# Altium footprint library Diodes.PcbLib: 14 footprints
Each footprint in its own frame and in the unit in brackets; x right, y up, seen from the top. Pads: shape width x height; smd on the part's side, far side on the other; paste and mask are expansions set on the pad; w line width, h text height; cw(c..) or ccw(c..) is an arc to the next point about the centre after c.
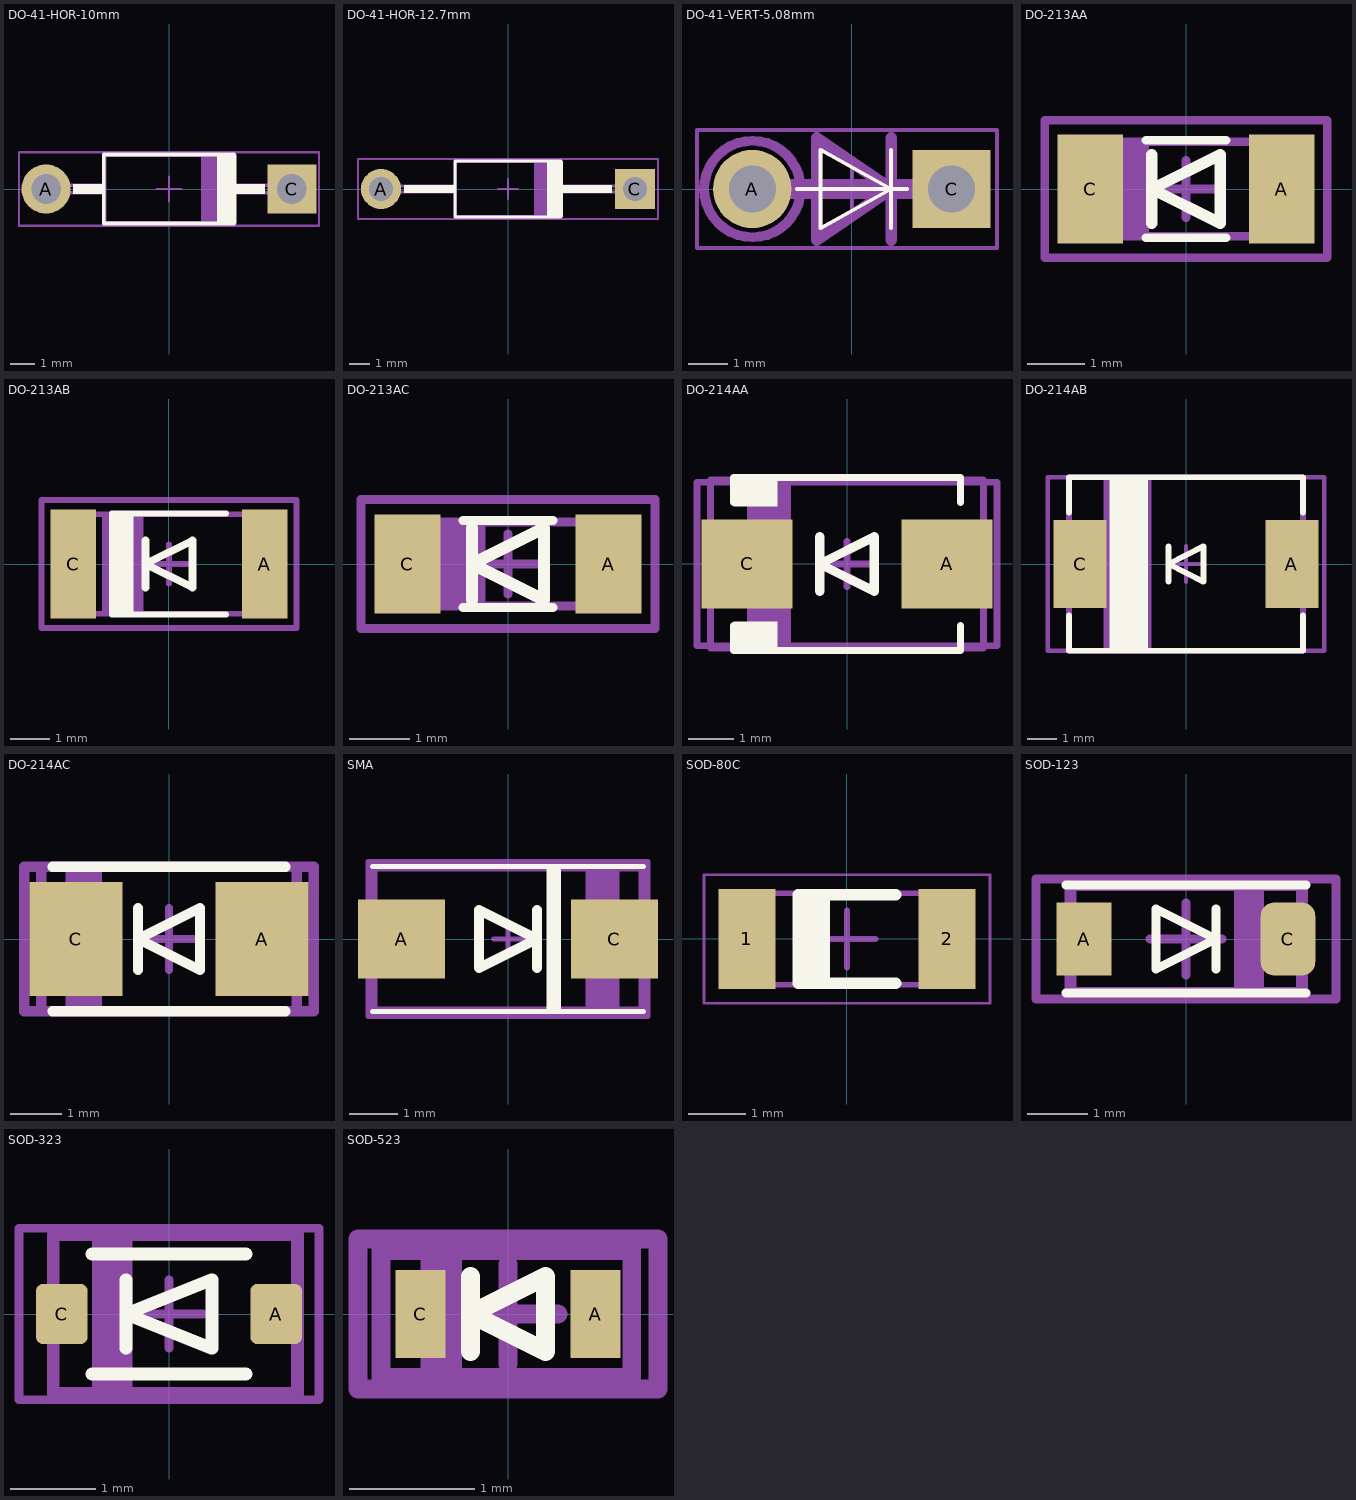
[diagram p0: the footprints below, top view; thin cyan lines are the x and y axes]

## DO-41-HOR-10mm [mm] "Diode, Axial; Body 5.2 x 2.7 mm (LxDia. max), Lead Dia. 0.86 mm (max)"
height 5
pads (2):
  round 2 hole 1.2: A(-5,0)
  rect 2x2 hole 1.2: C(5,0)
Top Overlay:
  rectangle: -3.9,-0.2 -2.65,0.2
  region: 3.9,0.2 2.65,0.2 2.65,-0.2 3.9,-0.2
  rectangle: 1.95,-1.4 2.75,1.4
  lines w0.15: 2.65,-1.4 -2.65,-1.4 -2.65,1.4 2.65,1.4
Top Assembly (Mech3):
  rectangle: 1.3,-1.375 1.95,1.375
  lines w0.15: -2.675,-0.15 -5.23,-0.15 -5.23,0 -5.23,0.15 -2.675,0.15 ; 2.675,-0.15 5.23,-0.15 5.23,0 5.23,0.15 2.675,0.15 ; -2.625,-1.375 -2.625,1.375 2.625,1.375 2.625,-1.375 -2.625,-1.375
Top Courtyard:
  lines w0.1: -0.5,0 0.5,0 ; 0,-0.5 0,0.5 ; -6.1,-1.5 -6.1,1.5 6.1,1.5 6.1,-1.5 -6.1,-1.5
3D body "User Library-DO-41 10mm.STEP": height 4.36, standoff -1, extent -5.41,-1.362 5.45,1.363

## DO-41-HOR-12.7mm [mm] "Diode, Axial; Body 5.2 x 2.7 mm (LxDia. max), Lead Dia. 0.86 mm (max)"
height 5
pads (2):
  round 2 hole 1.2: A(-6.35,0)
  rect 2x2 hole 1.2: C(6.35,0)
Top Overlay:
  region: 5.2,0.2 2.65,0.2 2.65,-0.2 5.2,-0.2
  rectangle: -5.2,-0.2 -2.65,0.2
  rectangle: 1.95,-1.4 2.75,1.4
  lines w0.15: 2.65,-1.4 -2.65,-1.4 -2.65,1.4 2.65,1.4
Top Assembly (Mech3):
  rectangle: 1.3,-1.375 1.95,1.375
  lines w0.15: -2.675,-0.15 -6.43,-0.15 -6.43,0 -6.43,0.15 -2.675,0.15 ; 2.675,-0.15 6.43,-0.15 6.43,0 6.43,0.15 2.675,0.15 ; -2.625,-1.375 2.625,-1.375 2.625,1.375 -2.625,1.375 -2.625,-1.375
Top Courtyard:
  lines w0.1: -0.5,0 0.5,0 ; 0,-0.5 0,0.5 ; -7.5,-1.5 7.5,-1.5 7.5,1.5 -7.5,1.5 -7.5,-1.5
3D body "User Library-DO-41 12_7mm.STEP": height 4.35, standoff -1.5, extent -6.78,-1.35 6.78,1.35

## DO-41-VERT-5.08mm [mm] "Diode, Axial; Body 5.2 x 2.7 mm (LxDia. max), Lead Dia. 0.86 mm (max)"
height 10
pads (2):
  round 2 hole 1.2: A(-2.54,0)
  rect 2x2 hole 1.2: C(2.54,0)
Top Overlay:
  lines w0.1: -1.4,0 1.4,0 ; 1,-1 1,1 ; -0.8,-1 -0.8,1 1,0 -0.8,-1
Top Assembly (Mech3):
  circle w0.254: c-2.54,0 r1.231
  lines w0.3: 1,-1.3 1,1.3 ; -0.9,-1.3 -0.9,1.3 1,0 -0.9,-1.3
  lines w0.5: -2.5,0 2.54,0
Top Courtyard:
  lines w0.1: -0.5,0 0.5,0 ; 0,-0.5 0,0.5 ; -3.952,-1.5 3.7,-1.5 3.7,1.5 -3.952,1.5 -3.952,-1.5
3D body "User Library-DO-41 Vert 5_08mm.STEP": height 10.43, standoff -1.2, extent -3.85,-1.35 3.01,1.35

## DO-213AA [mm] "MELF Diode, 2-Leads, Body 3,50x1,65mm, IPC Medium Density"
height 1.65
pads (2):
  rect 1.15x1.9 smd: A(1.675,0) C(-1.675,0)
Top Overlay:
  lines w0.15: -0.7,-0.85 0.7,-0.85 ; -0.7,0.85 0.7,0.85
  lines w0.2: -0.6,-0.6 -0.6,0.6 ; -0.6,0 0.6,-0.6 0.6,0.6 -0.6,0
  text "." at -2.35,1.3 h0.1
Top Assembly (Mech3):
  rectangle: -1.3,-0.825 -0.65,0.825
  lines w0.15: -1.75,-0.825 1.75,-0.825 1.75,0.825 -1.75,0.825 -1.75,-0.825
Top Courtyard:
  lines w0.15: -0.5,0 0.5,0 ; 0,-0.5 0,0.5 ; -2.475,-1.2 -2.475,1.2 2.475,1.2 2.475,-1.2 -2.475,-1.2
3D body "DO-213AA.step": height 1.65, standoff 0.01, extent -1.75,-0.823 1.75,0.823

## DO-213AB [mm] "MELF Diode, 2-Leads, Body 5,00x2,52mm, IPC Medium Density"
height 2.52
pads (2):
  rect 1.15x2.75 smd: A(2.425,0) C(-2.425,0)
Top Overlay:
  rectangle: -1.45,-1.275 -0.9,1.275
  lines w0.15: 1.45,-1.275 -1.45,-1.275 -1.45,1.275 1.45,1.275
  lines w0.2: -0.6,-0.6 -0.6,0.6 ; -0.6,0 0.6,0.6 0.6,-0.6 -0.6,0
  text "." at -3.35,1.55 h0.1
Top Assembly (Mech3):
  rectangle: -1.7,-1.26 -0.65,1.26
  lines w0.15: -2.5,-1.26 2.5,-1.26 2.5,1.26 -2.5,1.26 -2.5,-1.26
Top Courtyard:
  lines w0.15: -0.5,0 0.5,0 ; 0,-0.5 0,0.5 ; -3.225,-1.625 -3.225,1.625 3.225,1.625 3.225,-1.625 -3.225,-1.625
3D body "DO-213AB.step": height 1.4, standoff 0.01, extent -1.725,-0.699 1.725,0.699

## DO-213AC [mm] "MELF Diode, 2-Leads, Body 3,45x1,40mm, IPC Medium Density"
height 1.4
pads (2):
  rect 1.1x1.65 smd: A(1.675,0) C(-1.675,0)
Top Overlay:
  lines w0.15: -0.75,-0.725 0.75,-0.725 ; -0.75,0.725 0.75,0.725
  lines w0.2: -0.6,-0.6 -0.6,0.6 ; -0.6,0 0.6,-0.6 0.6,0.6 -0.6,0
  text "." at -2.6,1.3 h0.1
Top Assembly (Mech3):
  rectangle: -1.2,-0.7 -0.375,0.7
  lines w0.15: -1.725,-0.7 -1.725,0.7 1.725,0.7 1.725,-0.7 -1.725,-0.7
Top Courtyard:
  lines w0.15: -0.5,0 0.5,0 ; 0,-0.5 0,0.5 ; -2.45,-1.075 2.45,-1.075 2.45,1.075 -2.45,1.075 -2.45,-1.075
3D body "DO-213AC.step": height 1.4, standoff 0.01, extent -1.725,-0.699 1.725,0.699

## DO-214AA [mm] "Molded Diode, 2-Leads, Body 5,00x3,70mm, IPC High Density"
height 2.1
pads (2):
  rect 2x1.95 smd: A(2.2,0) C(-2.2,0)
Top Overlay:
  rectangle: -2.5,1.27 -1.524,1.9
  rectangle: -2.5,-1.9 -1.524,-1.27
  lines w0.15: -2.5,-1.35 -2.5,-1.9 2.5,-1.9 2.5,-1.35 ; -2.5,1.35 -2.5,1.9 2.5,1.9 2.5,1.35
  lines w0.2: -0.6,-0.6 -0.6,0.6 ; -0.6,0 0.6,-0.6 0.6,0.6 -0.6,0
  text "." at -3.1,1.55 h0.1
Top Assembly (Mech3):
  rectangle: -2.2,-1.85 -1.228,1.85
  lines w0.15: -3,-1.85 -3,1.85 3,1.85 3,-1.85 -3,-1.85
Top Courtyard:
  lines w0.15: -0.5,0 0.5,0 ; 0,-0.5 0,0.5 ; -3.3,-1.8 3.3,-1.8 3.3,1.8 -3.3,1.8 -3.3,-1.8
3D body "DO-214AA.step": height 2.3, standoff 0, extent -2.97,-1.8 2.97,1.8

## DO-214AB [mm]
pads (2):
  rect 1.8x3 smd: A(3.6,0) C(-3.6,0)
Top Overlay:
  rectangle: -2.6,-2.95 -1.3,2.95
  lines w0.2: -3.975,-1.75 -3.975,-2.95 3.975,-2.95 3.975,-1.75 ; -3.975,1.75 -3.975,2.95 3.975,2.95 3.975,1.75 ; -0.6,-0.6 -0.6,0.6 ; -0.6,0 0.6,-0.6 0.6,0.6 -0.6,0
Top Assembly (Mech3):
  rectangle: -2.8,-2.95 -1.175,2.95
  lines w0.2: -3.975,-2.95 3.975,-2.95 3.975,2.95 -3.975,2.95 -3.975,-2.95
Top Courtyard:
  lines w0.15: -0.6,0 0.6,0 ; 0,-0.6 0,0.6 ; -4.7,-2.95 4.7,-2.95 4.7,2.95 -4.7,2.95 -4.7,-2.95
3D body "SW3dPS-DO-214AB SMC.STEP": height 2.3, standoff 0, extent -3.975,-2.95 3.975,2.95

## DO-214AC [mm]
height 2.2
pads (2):
  rect 1.8x2.2 smd: A(1.8,0) C(-1.8,0)
Top Overlay:
  lines w0.2: -2.25,-1.4 2.25,-1.4 ; -2.25,1.4 2.25,1.4 ; -0.6,-0.6 -0.6,0.6 ; -0.6,0 0.6,0.6 0.6,-0.6 -0.6,0
Top Assembly (Mech3):
  rectangle: -2,-1.4 -1.3,1.4
  lines w0.2: -2.47,-1.4 2.47,-1.4 2.47,1.4 -2.47,1.4 -2.47,-1.4
Top Courtyard:
  lines w0.15: -0.6,0 0.6,0 ; 0,-0.6 0,0.6
  lines w0.2: -2.8,-1.4 2.8,-1.4 2.8,1.4 -2.8,1.4 -2.8,-1.4
3D body "DIOM4227X24N.step": height 2.4, standoff 0, extent -2.47,-1.4 2.47,1.4

## SMA [mm] "DO-214AC"
pads (2):
  rect 1.8x1.64 smd: A(-2.2,0) C(2.2,0)
Top Overlay:
  rectangle: 0.8,-1.5 1.1,1.5
  lines w0.1: -2.8,-1.5 2.8,-1.5 ; -2.8,1.5 2.8,1.5
  lines w0.2: 0.6,-0.6 0.6,0.6 ; -0.6,-0.6 0.6,0 -0.6,0.6 -0.6,-0.6
Top Assembly (Mech3):
  rectangle: 1.6,-1.5 2.3,1.5
  lines w0.2: -2.8,-1.5 2.8,-1.5 2.8,1.5 -2.8,1.5 -2.8,-1.5
Top Courtyard:
  lines w0.1: -0.3,0 0.3,0 ; 0,-0.3 0,0.3 ; -2.9,-1.6 2.9,-1.6 2.9,1.6 -2.9,1.6 -2.9,-1.6
3D body "User Library-DO-214AC-SMA.STEP": height 2.7, standoff 0, extent -2.8,-1.475 2.8,1.475

## SOD-80C [mm] "MELF Diode, 2-Leads, Body 3,50x1,53mm, IPC Medium Density"
height 1.6
pads (2):
  rect 1x1.75 smd: 1(-1.75,0) 2(1.75,0)
Top Overlay:
  rectangle: -0.85,-0.775 -0.3,0.775
  lines w0.2: 0.85,-0.775 -0.85,-0.775 -0.85,0.775 0.85,0.775
Top Assembly (Mech3):
  lines w0.1: -1.85,-0.8 1.85,-0.8 1.85,0.8 -1.85,0.8 -1.85,-0.8
Top Courtyard:
  lines w0.05: -2.5,-1.125 2.5,-1.125 2.5,1.125 -2.5,1.125 -2.5,-1.125
  lines w0.1: -0.5,0 0.5,0 ; 0,-0.5 0,0.5
3D body: height 1.6, standoff 0, extent 1.55,-0.8 1.85,0.8
3D body: height 1.59, standoff 0.04, extent -1.55,-0.77 1.55,0.77
3D body: height 1.59, standoff 0.04, extent -0.95,-0.771 -0.35,0.771
3D body: height 1.6, standoff 0, extent -1.85,-0.8 -1.55,0.8

## SOD-123 [mm]
height 3
pads (2):
  rect 0.91x1.22 smd: A(-1.7,0)
  rrect50% 0.91x1.22 smd: C(1.7,0)
Top Overlay:
  lines w0.15: -2,-0.9 2,-0.9 ; -2,0.9 2,0.9 ; 0.5,-0.5 0.5,0.5 ; -0.5,-0.5 -0.5,0.5 0.5,0 -0.5,-0.5
Top Assembly (Mech3):
  rectangle: 0.8,-0.9 1.3,0.9
  lines w0.2: -1.929,-0.9 -1.929,0.9 1.929,0.9 1.929,-0.9 -1.929,-0.9
Top Courtyard:
  lines w0.15: -0.6,0 0.6,0 ; 0,-0.6 0,0.6 ; -2.5,-1 2.5,-1 2.5,1 -2.5,1 -2.5,-1
3D body "sod_123.stp": height 1.22, standoff -0.03, extent -1.929,-0.9 1.929,0.9

## SOD-323 [mm] "SOD-323; 2 Leads; Body 1.8 x 1.35 mm, (LxW)"
height 1.15
pads (2):
  rrect25% 0.6x0.7 smd: A(1.25,0) C(-1.25,0)
Top Overlay:
  lines w0.15: -0.9,-0.7 0.9,-0.7 ; -0.9,0.7 0.9,0.7 ; -0.5,-0.4 -0.5,0.4 ; -0.5,0 0.5,-0.4 0.5,0.4 -0.5,0
Top Assembly (Mech3):
  rectangle: -0.9,-0.925 -0.425,0.925
  lines w0.15: -1.35,-0.925 -1.35,0.925 1.5,0.925 1.5,-0.925 -1.35,-0.925
Top Courtyard:
  lines w0.1: -0.4,0 0.4,0 ; 0,-0.4 0,0.4 ; -1.75,-1 -1.75,1 1.75,1 1.75,-1 -1.75,-1
3D body "SOD323.STEP": height 1.1, standoff 0, extent -1.3,-0.675 1.3,0.675

## SOD-523 [mm] "SODFL, 2-Leads, Body 0,80x1,60mm, IPC Medium Density"
height 0.65
pads (2):
  rect 0.4x0.7 smd: A(0.7,0) C(-0.7,0)
Top Overlay:
  lines w0.15: -0.3,-0.3 -0.3,0.3 ; -0.3,0 0.3,-0.3 0.3,0.3 -0.3,0
  text "." at -1.2,0.6 h0.1
Top Assembly (Mech3):
  rectangle: -0.7,-0.508 -0.37,0.508
  lines w0.15: -1.016,-0.508 0.991,-0.508 0.991,0.508 -1.016,0.508 -1.016,-0.508
Top Courtyard:
  lines w0.15: -0.4,0 0.4,0 ; 0,-0.4 0,0.4 ; -1.2,-0.6 1.2,-0.6 1.2,0.6 -1.2,0.6 -1.2,-0.6
3D body "SOD523.STEP": height 0.65, standoff 0, extent -0.825,-0.4 0.825,0.4